# EAGLE library part 74VHC123AM (library Fairchild_By_element14_Batch_1)
Dual Retriggerable Monostable Multivibrator
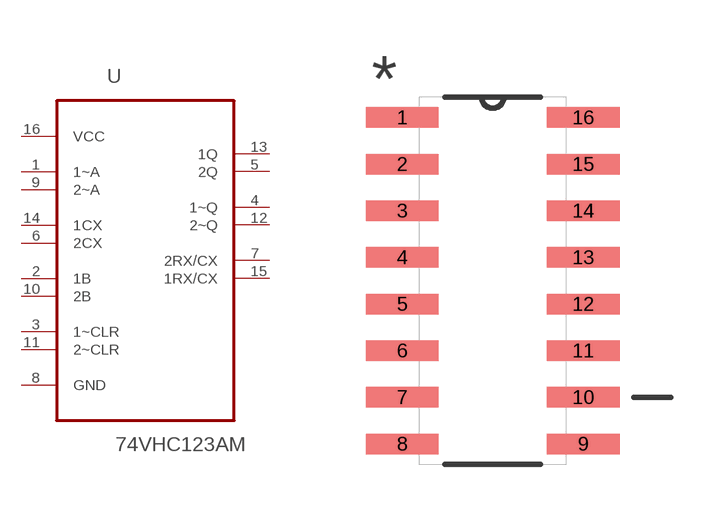
[diagram p124: symbol with the pads of SOIC127P600X175-16N; footprint SOIC127P600X175-16N]

Designator prefix U

## 74VHC123AM (MPN: 74VHC123AM; OC_FARNELL: 1014112; OC_NEWARK: 78K6366; PACKAGE: SOIC-16; SUPPLIER: Fairchild Semiconductor)  [SOIC127P600X175-16N]
1  1~A  in
2  1B  in
3  1~CLR  in
4  1~Q  out
5  2Q  out
6  2CX  in
7  2RX/CX  in
8  GND  pas
9  2~A  in
10  2B  in
11  2~CLR  in
12  2~Q  out
13  1Q  out
14  1CX  in
15  1RX/CX  in
16  VCC  pwr

## Footprint SOIC127P600X175-16N (pad centres in mm)
smd 1.981 x 0.559: 1 -2.464,4.445; 2 -2.464,3.175; 3 -2.464,1.905; 4 -2.464,0.635; 5 -2.464,-0.635; 6 -2.464,-1.905; 7 -2.464,-3.175; 8 -2.464,-4.445; 9 2.464,-4.445; 10 2.464,-3.175; 11 2.464,-1.905; 12 2.464,-0.635; 13 2.464,0.635; 14 2.464,1.905; 15 2.464,3.175; 16 2.464,4.445